# Altium schematic symbol library SEMATIK_LIB.SchLib: 632 symbols (part 20 of 21)
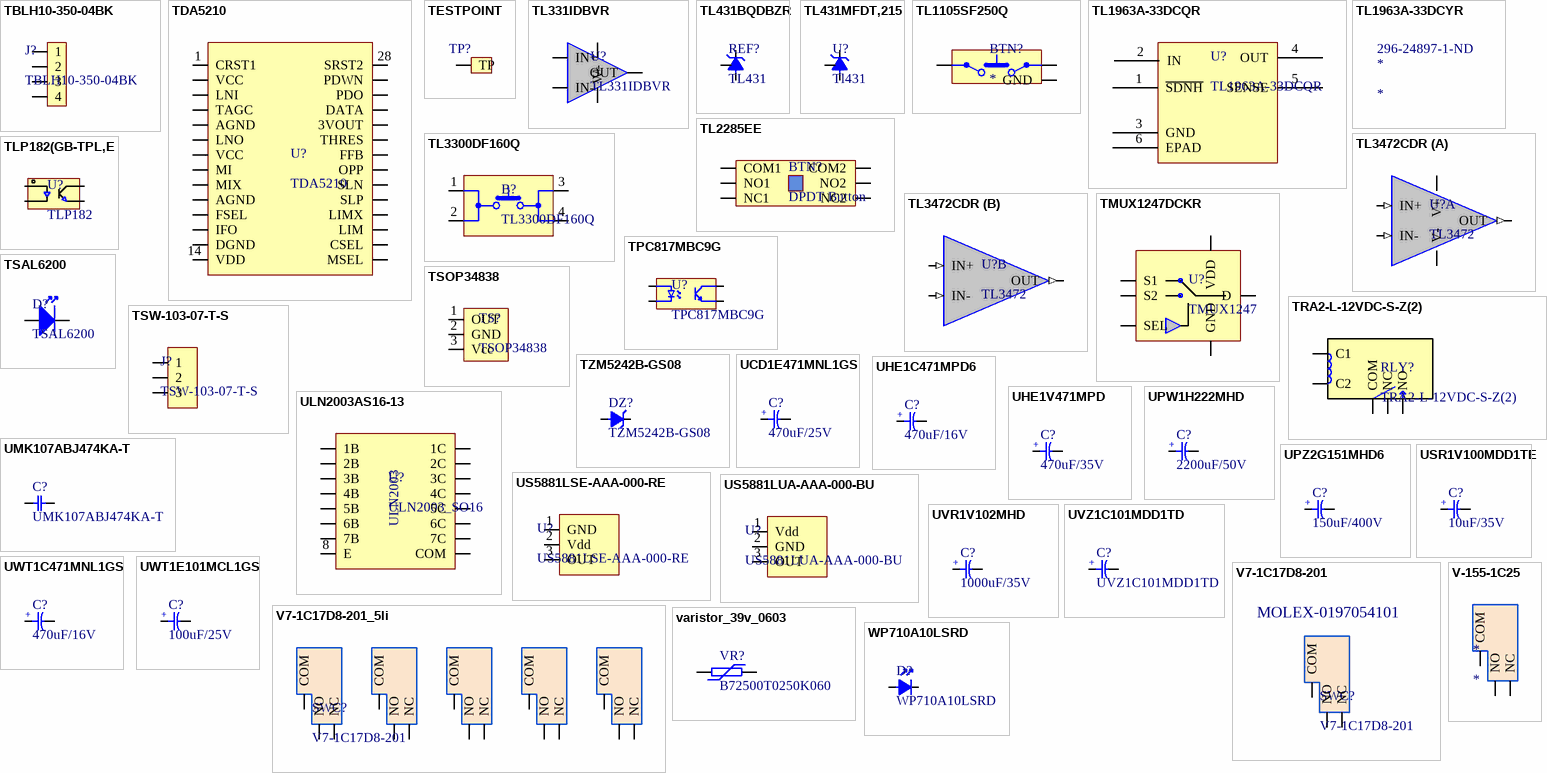
[diagram p35: symbols TBLH10-350-04BK to WP710A10LSRD]

## TL3472CDR
designator U?, comment TL3472
IC OPAMP GP 2 CIRCUIT 8SOIC; Manufacturer: Texas Instruments; Manufacturer Part Number: TL3472CDR; Min Supply Voltage: 4V; Max Supply Voltage: 36V; Min Dual Supply Voltage: 2V; Max Dual Supply Voltage: 18V; Voltage Gain: 100dB; Nominal Supply Current: 9mA; Bandwidth: 4MHz; Common Mode Rejection Ratio: 65dB; Number of Channels: 2; Slew Rate: 13V/µs; Max I/O Voltage: 10mV; Input Bias Current: 500nA; Operating Supply Current: 3.5mA; Output Current per Channel: 34mA; Amplifier Type: GENERAL PURPOSE; Dual Supply Voltage: 9V; Supplier 1: Digi-Key; RoHS: Yes; Category: Amplifiers - Op Amps, Buffer, Instrumentation; Stock 1: 8867; Pricing 1: 1=0,80000, 10=0,70700, 25=0,66360, 100=0,54170, 250=0,50320, 500=0,42824, 1000=0,34259 (USD); Case/Package: D; Number of Pins: 8; Contact Plating: Gold; Min Operating Temperature: -40°C; Max Operating Temperature: 105°C; Packaging: Tape and Reel; Operating Supply Voltage: 18V; Package Quantity: 1; Number of Circuits: 2; Gain Bandwidth Product: 4MHz; Input Offset Voltage (Vos): 10mV; Supply Current: 9mA; Unity Gain Bandwidth Product: 4MHz; Nominal Gain Bandwidth Product: 4MHz; Number of Elements: 2; Technology: BIPOLAR; Number of Amplifiers: 2; Length: 4.9mm; Width: 3.91mm; Height: 1.58mm; Radiation Hardening: No; Lead Free: Lead Free; RoHS Compliant: Yes; Reach SVHC Compliant: Yes; ComponentLink1URL: https://datasheet.ciiva.com/15129/getdatasheetpartid-48517-15129885.pdf?src-supplier=Verical; ComponentLink1Description: https://datasheet.ciiva.com/15129/getdatasheetpartid-48517-15129885.pdf?src-supplier=Verical; ComponentLink2URL: https://datasheet.ciiva.com/1796/tl3472-1796025.pdf?src-supplier=Digi-Key; ComponentLink2Description: https://datasheet.ciiva.com/1796/tl3472-1796025.pdf?src-supplier=Digi-Key; ComponentLink3URL: https://datasheet.ciiva.com/1796/tl3472-1796024.pdf?src-supplier=Digi-Key; ComponentLink3Description: https://datasheet.ciiva.com/1796/tl3472-1796024.pdf?src-supplier=Digi-Key; ComponentLink4URL: https://datasheet.ciiva.com/1796/tl3472-1796026.pdf?src-supplier=Digi-Key; ComponentLink4Description: https://datasheet.ciiva.com/1796/tl3472-1796026.pdf?src-supplier=Digi-Key; ComponentLink5URL: https://datasheet.ciiva.com/14460/slos200g-14460122.pdf?src-supplier=Avnet; ComponentLink5Description: https://datasheet.ciiva.com/14460/slos200g-14460122.pdf?src-supplier=Avnet; ComponentLink6URL: https://datasheet.ciiva.com/48711/001071219-da-01-en-ic-opamp-gp-4mhz-du-tl3472cdr-soic-8-tid-48711317.pdf?src-supplier=Conrad; ComponentLink6Description: https://datasheet.ciiva.com/48711/001071219-da-01-en-ic-opamp-gp-4mhz-du-tl3472cdr-soic-8-tid-48711317.pdf?src-supplier=Conrad
footprint SOP8
part A pins: 1 OUT (out), 2 IN- (in), 3 IN+ (in), 4 V- (power), 8 V+ (power)
part B pins: 5 IN+ (in), 6 IN- (in), 7 OUT (out)

## TLP182(GB-TPL,E
designator U?, comment TLP182
OPTOISO 3.75KV TRANS 6-SO 4 LEAD; Manufacturer: Toshiba; Manufacturer Part Number: TLP182(GB-TPL,E; Forward Voltage: 1.25V; Number of Channels: 1; Collector Emitter Voltage (VCEO): 300mV; Max Power Dissipation: 200mW; Max Output Voltage: 80V; Output Current per Channel: 50mA; Supplier 1: Digi-Key; Stock 1: 1377; Pricing 1: 1 = 0,52000, 10 = 0,32000, 100 = 0,18400, 1000 = 0,14400 (USD); RoHS: Yes; Mount: Surface Mount; Case/Package: SMD/SMT; Number of Pins: 4; Min Operating Temperature: -55°C; Max Operating Temperature: 125°C; Package Quantity: 1; Packaging: Tape and Reel; Max Collector Current: 50mA; Collector Emitter Saturation Voltage: 300mV; Max Input Current: 50mA; Radiation Hardening: No; ComponentLink1URL: https://datasheet.ciiva.com/29870/tlp182-datasheet-en-20130913-29870214.pdf?src-supplier=Digi-Key; ComponentLink1Description: https://datasheet.ciiva.com/29870/tlp182-datasheet-en-20130913-29870214.pdf?src-supplier=Digi-Key; ComponentLink2URL: https://datasheet.ciiva.com/29870/tlp182-datasheet-en-20130913-29870215.pdf?src-supplier=Digi-Key; ComponentLink2Description: https://datasheet.ciiva.com/29870/tlp182-datasheet-en-20130913-29870215.pdf?src-supplier=Digi-Key; ComponentLink3URL: https://datasheet.ciiva.com/29870/tlp182-datasheet-en-20130913-29870216.pdf?src-supplier=Digi-Key; ComponentLink3Description: https://datasheet.ciiva.com/29870/tlp182-datasheet-en-20130913-29870216.pdf?src-supplier=Digi-Key; ComponentLink4URL: https://datasheet.ciiva.com/30032/tlp182-datasheet-en-20130913-30032761.pdf?src-supplier=Avnet; ComponentLink4Description: https://datasheet.ciiva.com/30032/tlp182-datasheet-en-20130913-30032761.pdf?src-supplier=Avnet; Supplier Part Number 1: TLP182(GB-TPLECT-ND
footprint FPT2_OPTO_SMD
pins: 1 Anod, 2 Cath, 3 Emiter, 4 Collector

## TMUX1247DCKR
designator U?, comment TMUX1247
IC ANALOG SWITCH SPDT X 1 3OHM SC70-6; Manufacturer: Texas Instruments; Manufacturer Part Number: TMUX1247DCKR; Manufacturer Lifecycle Status: ACTIVE; -3db Bandwidth: 250MHz; Max Junction Temperature (Tj): 150°C; Max Supply Voltage: 5.5V; Min Supply Voltage: 1.08V; Number of Channels: 1; On-State Resistance: 3Ω; Value: 3Ω; Supplier: Mouser; Supplier Part Number: 595-TMUX1247DCKR; RoHS: Compliant; Category: Analog Switches and Multiplexers; Stock: 13808; Pricing: 1=0,77, 10=0,55, 50=0,495, 100=0,434, 1000=0,346, 10000=0,253 (USD); Ambient Temperature Range High: 125°C; Height: 1.1mm; Length: 2mm; Lifecycle Status: Production; Max Operating Temperature: 125°C; Min Operating Temperature: -40°C; Number of Circuits: 1; Pins: 6; Thickness: 900µm; Throw Configuration: SPDT; Width: 1.25mm; ComponentLink1URL: https://sigma.octopart.com:443/182282881/technical_drawing/Texas-Instruments-TMUX1247DCKR.pdf?src-supplier=Texas+Instruments; ComponentLink1Description: https://sigma.octopart.com:443/182282881/technical_drawing/Texas-Instruments-TMUX1247DCKR.pdf?src-supplier=Texas+Instruments; ComponentLink2URL: https://octopart.com:443/opatz8j6/c1?t=CI1zPWi6WpkfrlzFimJ7ZYeyIKOCc3soz4hUmGcztL1qVcM8LrLqKGjYD66ngmOdMsyHHMRlqzaI2Q0tdP3z-Dd9yuQRC0VLAlB5GdWLvDlkialq4wkzSZgAUeBnK13yrnzsDep8UYabaFY6UcVxZSp-37ty2iwYjEZMFE4LDEQUHhE1V9RSPnOXvjwilJwH4_BpbtYTgYhNMD2SkDBSe-bsxmSX1YkXF39aspAe1PwIhRcFsTWJUX9oVwHY-SE5i2Pe6q-AQEfvrgxzg-kU6rcWKSQx_ran_Ge_Phr0kZx0yzfl8_egu6xYWB1Go17mmQ5m9dIbyVdxwq4-vnw-e3ID4sTB4lT1s61bYcj716W5X04Pt5DzDnODSyqZmiJFgG259Rdl5w&src-supplier=Texas+Instruments; ComponentLink2Description: https://octopart.com:443/opatz8j6/c1?t=CI1zPWi6WpkfrlzFimJ7ZYeyIKOCc3soz4hUmGcztL1qVcM8LrLqKGjYD66ngmOdMsyHHMRlqzaI2Q0tdP3z-Dd9yuQRC0VLAlB5GdWLvDlkialq4wkzSZgAUeBnK13yrnzsDep8UYabaFY6UcVxZSp-37ty2iwYjEZMFE4LDEQUHhE1V9RSPnOXvjwilJwH4_BpbtYTgYhNMD2SkDBSe-bsxmSX1YkXF39aspAe1PwIhRcFsTWJUX9oVwHY-SE5i2Pe6q-AQEfvrgxzg-kU6rcWKSQx_ran_Ge_Phr0kZx0yzfl8_egu6xYWB1Go17mmQ5m9dIbyVdxwq4-vnw-e3ID4sTB4lT1s61bYcj716W5X04Pt5DzDnODSyqZmiJFgG259Rdl5w&src-supplier=Texas+Instruments; ComponentLink3URL: https://sigma.octopart.com:443/178868976/technical_drawing/Texas-Instruments-TMUX1247DCKR.pdf?src-supplier=Texas+Instruments; ComponentLink3Description: https://sigma.octopart.com:443/178868976/technical_drawing/Texas-Instruments-TMUX1247DCKR.pdf?src-supplier=Texas+Instruments; ComponentLink4URL: https://sigma.octopart.com:443/49249328/technical_drawing/Texas-Instruments-TMUX1247DCKR.pdf?src-supplier=Texas+Instruments; ComponentLink4Description: https://sigma.octopart.com:443/49249328/technical_drawing/Texas-Instruments-TMUX1247DCKR.pdf?src-supplier=Texas+Instruments; ComponentLink5URL: https://datasheet.octopart.com:443/TMUX1247DCKR-Texas-Instruments-datasheet-149898363.pdf?src-supplier=SHENGYU+ELECTRONICS; ComponentLink5Description: https://datasheet.octopart.com:443/TMUX1247DCKR-Texas-Instruments-datasheet-149898363.pdf?src-supplier=SHENGYU+ELECTRONICS; ComponentLink6URL: https://datasheet.octopart.com:443/TMUX1247DCKR-Texas-Instruments-datasheet-160672343.pdf?src-supplier=LCSC; ComponentLink6Description: https://datasheet.octopart.com:443/TMUX1247DCKR-Texas-Instruments-datasheet-160672343.pdf?src-supplier=LCSC; ComponentLink7URL: http://sigma.octopart.com:80/conflict_mineral_statement/Texas-Instruments-company-63.pdf?src-supplier=Compliance+Statements; ComponentLink7Description: http://sigma.octopart.com:80/conflict_mineral_statement/Texas-Instruments-company-63.pdf?src-supplier=Compliance+Statements; ComponentLink8URL: http://sigma.octopart.com:80/reach_statement/Texas-Instruments-company-64.pdf?src-supplier=Compliance+Statements; ComponentLink8Description: http://sigma.octopart.com:80/reach_statement/Texas-Instruments-company-64.pdf?src-supplier=Compliance+Statements
footprint SOT-363(SC-70)
pins: 1 S2, 2 VDD, 3 S1, 4 D, 5 GND, 6 SEL

## TPC817MBC9G
designator U?
OPTOISO 5KV TRANS DIP-4M; Manufacturer 1: Taiwan Semiconductor; Number of Channels: 1; Max Output Voltage: 80V; Output Current per Channel: 50mA; Forward Voltage: 1.2V; Collector Emitter Voltage (VCEO): 200mV; Supplier 1: Digi-Key; Manufacturer Part Number 1: TPC817MBC9G; Description 1: OPTOISO 5KV TRANS DIP-4M; Stock 1: 0; Mount: Through Hole; Case/Package: DIP; Min Operating Temperature: -40°C; Max Operating Temperature: 100°C; Packaging: Rail/Tube; Supplier Part Number 1: TPC817MBC9G-ND
footprint DIP4
footprint DIP4_NOBODY
pins: 1, 2, 3, 4

## TRA2-L-12VDC-S-Z(2)
designator RLY?
RELAY GEN PURPOSE SPDT 16A 12VDC 360Ohm Through Hole; Manufacturer 1: TE Connectivity; Manufacturer Part Number 1: 6-1393238-2; Description 1: Electromechanical Relay SPDT 16A 12VDC 360Ohm Through Hole; Max Voltage Rating (AC): 400V; Coil Current: 33.3mA; Coil Resistance: 360R; Operate Time: 8ms; Coil Power: 400mW; Coil Voltage (DC): 12V; Dropout Voltage: 1.2V; Supplier 1: Digi-Key; Stock 1: 7303; Pricing 1: 1=2.94, 10=2.754, 25=2.448, 50=2.3256, 100=2.2032, 250=2.03492 (USD); Mount: Through Hole; Case/Package: DIP; Number of Pins: 8; Weight: 10g; Contact Material: Silver; Min Operating Temperature: -40°C; Max Operating Temperature: 85°C; Contact Current Rating: 16A; Packaging: Box; Throw Configuration: SPDT; Termination: PC Pin; Voltage Rating (AC): 400V; Max Current Rating: 16A; Length: 29mm; Depth: 12.7mm; Radiation Hardening: No; Lead Free: Lead Free; ELV: Compliant; ComponentLink1URL: http://www.onlinecomponents.com/productFiles/mf-AMP/4496ddetrolleractionshowdocdociddatasheet7frt17f09107fpdf7fenglish.pdf?src-supplier=Onlinecomponents.com; ComponentLink1Description: http://www.onlinecomponents.com/productFiles/mf-AMP/4496ddetrolleractionshowdocdociddatasheet7frt17f09107fpdf7fenglish.pdf?src-supplier=Onlinecomponents.com; ComponentLink2URL: http://www.te.com/commerce/DocumentDelivery/DDEController?Action=showdoc&DocId=Data+Sheet%7FRT1%7FIJ1%7Fpdf%7FEnglish%7FENG_DS_RT1_IJ1.pdf&src-supplier=Avnet+Europe; ComponentLink2Description: http://www.te.com/commerce/DocumentDelivery/DDEController?Action=showdoc&DocId=Data+Sheet%7FRT1%7FIJ1%7Fpdf%7FEnglish%7FENG_DS_RT1_IJ1.pdf&src-supplier=Avnet+Europe; ComponentLink3URL: http://www.te.com/commerce/DocumentDelivery/DDEController?Action=showdoc&DocId=Data+Sheet%7FRT1%7F0712%7Fpdf%7FEnglish%7FENG_DS_RT1_0712.pdf&src-supplier=Avnet; ComponentLink3Description: http://www.te.com/commerce/DocumentDelivery/DDEController?Action=showdoc&DocId=Data+Sheet%7FRT1%7F0712%7Fpdf%7FEnglish%7FENG_DS_RT1_0712.pdf&src-supplier=Avnet; ComponentLink4URL: http://www.te.com/commerce/DocumentDelivery/DDEController?Action=showdoc&DocId=Data+Sheet%7FRT1%7FIJ1%7Fpdf%7FEnglish%7FENG_DS_RT1_IJ1.pdf&src-supplier=Avnet; ComponentLink4Description: http://www.te.com/commerce/DocumentDelivery/DDEController?Action=showdoc&DocId=Data+Sheet%7FRT1%7FIJ1%7Fpdf%7FEnglish%7FENG_DS_RT1_IJ1.pdf&src-supplier=Avnet; Supplier Part Number 1: PB980-ND
footprint Relay_TRA2-L-12VDC-S-2Z
pins: C1, C2, COM1 COM, NC1 NC, NO1 NO

## TSAL6200
designator D?
LED EMITTER IR 940NM 100MA RADIAL; Manufacturer: Vishay Semiconductor Opto Division; Type: Infrared (IR); Radiant Intensity (Ie) Min @ If: 40mW/sr @ 100mA; Voltage - Forward (Vf) (Typ): 1.35V; Viewing Angle: 34°; Supplier 1: Digi-Key; Manufacturer Part Number: TSAL6200; RoHS: RoHS Compliant; Category: Optoelectronics; Stock 1: 26027; Pricing 1: 1=0.66, 10=0.473, 25=0.3864, 100=0.3091, 250=0.26084, 500=0.22218, 1000=0.17388, 2500=0.15939, 5000=0.1449 (USD); Packaging: Bulk; Part Status: Active; Current - DC Forward (If) (Max): 100mA; Wavelength: 940nm; Orientation: Top View; Operating Temperature: -40°C ~ 85°C (TA); Mounting Type: Through Hole; Package / Case: Radial, 5mm Dia (T 1 3/4); ComponentLink1URL: http://www.vishay.com/docs/81010/tsal6200.pdf; ComponentLink1Description: http://www.vishay.com/docs/81010/tsal6200.pdf; Supplier Part Number 1: 751-1204-ND
footprint DIP_LED
footprint Led_sensor
pins: A Anot, K Katot

## TSOP34838
designator TS?
IC IR RCVR MOD 38KHZ DOME RADIAL; Manufacturer: Vishay Semiconductor Opto Division; Sensing Distance: 45m; B.P.F. Center Frequency: 38.0kHz; Supplier 1: Digi-Key; Manufacturer Part Number: TSOP34838; RoHS: RoHS Compliant; Category: Sensors, Transducers; Stock 1: 3314; Pricing 1: 1=1.33, 5=1.28, 10=1.04, 25=0.896, 50=0.776, 100=0.704, 500=0.592, 2160=0.528, 6480=0.48 (USD); Packaging: Tube; Part Status: Active; Orientation: Side View; Mounting Type: Through Hole; Operating Temperature: -25°C ~ 85°C (TA); ComponentLink1URL: http://www.vishay.com/docs/82489/tsop322.pdf; ComponentLink1Description: http://www.vishay.com/docs/82489/tsop322.pdf; Supplier Part Number 1: 751-1386-5-ND
footprint TSOP34838_sensor
pins: 1 OUT, 2 GND, 3 Vcc

## TSW-103-07-T-S
designator J?
CONN HEADER 3POS .100mil VERT; Manufacturer: Samtec; Max Current Rating: 7.6A; Number of Positions: 3; Max Voltage Rating (AC): 550V; Gender: Male; Connector Type: Male Pin; Pitch: 2.54mm; Supplier 1: Digi-Key; Manufacturer Part Number: TSW-103-07-T-S; Stock 1: 3551; Pricing 1: 1 = 0,22000, 10 = 0,20700, 25 = 0,17640, 50 = 0,15420, 100 = 0,14320, 250 = 0,12668, 500 = 0,12118 (USD); RoHS: Yes; Mount: Through Hole; Contact Plating: Tin; Contact Material: Bronze; Color: Black; Housing Color: Black; Housing Material: Polyester; Min Operating Temperature: -55°C; Max Operating Temperature: 105°C; Number of Rows: 1; Package Quantity: 1; Packaging: Bulk; Termination: Solder; Number of Contacts: 3; Orientation: Vertical; Length: 7.62mm; Width: 2.54mm; Contact Mating Length: 0.23inch; Depth: 2.54mm; Radiation Hardening: No; REACH SVHC: No SVHC; Lead Free: Lead Free; ComponentLink1URL: https://datasheet.ciiva.com/6890/tsw-xxx-xx-xxx-x-xx-xxx-mkt-6890268.pdf?src-supplier=Digi-Key; ComponentLink1Description: https://datasheet.ciiva.com/6890/tsw-xxx-xx-xxx-x-xx-xxx-mkt-6890268.pdf?src-supplier=Digi-Key; Supplier Part Number 1: SAM1035-03-ND
footprint HDR_MALE_1x3_100mil
pins: 1, 2, 3

## TZM5242B-GS08
designator DZ?
DIODE ZENER SINGLE 12V 5% 500mW Automotive 2-Pin Mini-MELF SOD-80 T/R; Manufacturer: Vishay; Forward Voltage: 1.1V; Lens Style: Circular,Colorless,Diffused; Viewing Angle: 18°; Impedance: 30R; Max Reverse Leakage Current: 1uA; Zener Current: 200mA; Test Current: 20mA; Number of LEDs: 1; Supplier 1: Digi-Key; Manufacturer Part Number: TZM5242B-GS08; Stock 1: 5347; Pricing 1: 1=0.22, 10=0.199, 25=0.1892, 100=0.1083, 250=0.08024, 500=0.06662, 1000=0.04542 (USD); Mount: Surface Mount; Number of Pins: 2; Color: Green; Min Operating Temperature: -65°C; Max Operating Temperature: 175°C; Max Power Dissipation: 500mW; Packaging: Tape and Reel; Package Quantity: 1; Tolerance: 5%; Zener Voltage: 12V; Power Dissipation: 500mW; Voltage Tolerance: 5%; Working Voltage: 12V; Peak Reverse Current: 1uA; Element Configuration: Single; Diameter: 1.6mm; Length: 3.7mm; Height: 1.6mm; Width: 1.6mm; Radiation Hardening: No; REACH SVHC: Unknown; Lead Free: Lead Free; ComponentLink1URL: http://www.vishay.com/docs/85609/tzm5221.pdf?src-supplier=Digi-Key; ComponentLink1Description: http://www.vishay.com/docs/85609/tzm5221.pdf?src-supplier=Digi-Key; ComponentLink2URL: http://www.farnell.com/datasheets/1347039.pdf?src-supplier=Element14; ComponentLink2Description: http://www.farnell.com/datasheets/1347039.pdf?src-supplier=Element14; ComponentLink3URL: https://www.verical.com/server-webapp/html/getDatasheet?partID=44782&src-supplier=Verical; ComponentLink3Description: https://www.verical.com/server-webapp/html/getDatasheet?partID=44782&src-supplier=Verical; ComponentLink4URL: http://www.jameco.com/Jameco/Products/ProdDS/816245.pdf?src-supplier=Jameco; ComponentLink4Description: http://www.jameco.com/Jameco/Products/ProdDS/816245.pdf?src-supplier=Jameco; ComponentLink5URL: http://www.vishay.com/docs/83010/tlhe510.pdf?src-supplier=Avnet+Europe; ComponentLink5Description: http://www.vishay.com/docs/83010/tlhe510.pdf?src-supplier=Avnet+Europe; ComponentLink6URL: https://www.alliedelec.com/m/d/fe6cb72a445eab81476a03954910f02b.pdf?src-supplier=Allied+Electronics; ComponentLink6Description: https://www.alliedelec.com/m/d/fe6cb72a445eab81476a03954910f02b.pdf?src-supplier=Allied+Electronics; Supplier Part Number 1: TZM5242B-GS08CT-ND
footprint SOD-80
pins: A Anot, K Katot

## UCD1E471MNL1GS
designator C?, comment 470uF/25V
CAP ALUM uF 470 25V 20% SMD
footprint Cap_Alu_10.3x10.3mm
pins: 1, 2
text: +

## UHE1C471MPD6
designator C?, comment 470uF/16V
CAP ALUM uF 470 16V 20% RADIAL; Manufacturer 1: Nichicon; Manufacturer Part Number 1: UHE1C471MPD6; Description 1: CAP ALUM 470UF 20% 16V RADIAL; Dielectric Material: Aluminium; Capacitance: 470uF; Ripple Current: 865mA; Impedance: 80mR; Leakage Current: 75.2uA; Life (Hours): 7000Hour; Dissipation Factor: 0.16%; ESR (Equivalent Series Resistance): 320mR; Lead Diameter: 0.6mm; Supplier 1: Digi-Key; Stock 1: 65171; Pricing 1: 1=0.47, 10=0.333, 100=0.2195, 500=0.1626, 1000=0.13821, 2500=0.13008, 5000=0.12195 (USD); Mount: Through Hole; Case/Package: Radial; Min Operating Temperature: -40°C; Max Operating Temperature: 105°C; Package Quantity: 200; Packaging: Bulk; Tolerance: 20%; Voltage Rating: 16V; Termination: Radial; Voltage: 16V; Voltage Rating (DC): 16V; Diameter: 10mm; Length: 12.5mm; Height: 12.5mm; Lead Pitch: 5mm; Height - Seated (Max): 0.492inch; Radiation Hardening: No; Lead Free: Lead Free; ComponentLink1URL: http://documents.rs-components.com/techlib://itc_doclist_GB.htm?stockno=4909765&src-supplier=RSComponents; ComponentLink1Description: http://documents.rs-components.com/techlib://itc_doclist_GB.htm?stockno=4909765&src-supplier=RSComponents; ComponentLink2URL: http://nichicon-us.com/english/products/pdfs/e-uhe.pdf?src-supplier=Digi-Key; ComponentLink2Description: http://nichicon-us.com/english/products/pdfs/e-uhe.pdf?src-supplier=Digi-Key; ComponentLink3URL: http://www.nichicon.co.jp/english/products/pdfs/e-he.pdf?src-supplier=Avnet; ComponentLink3Description: http://www.nichicon.co.jp/english/products/pdfs/e-he.pdf?src-supplier=Avnet; Supplier Part Number 1: 493-1523-ND
footprint 10x12_5mm_Cap_Dip
pins: 1, 2
text: +

## UHE1V471MPD
designator C?, comment 470uF/35V
CAP ALUM uF 470 35V 20%  RADIAL; Manufacturer: Nichicon; Manufacturer Part Number: UHE1V471MPD; Lifetime @ Temp.: 7000 Hrs @ 105°C; Polarization: Polar; Supplier 1: Digi-Key; RoHS: RoHS Compliant; Category: Capacitors; Stock 1: 27540; Pricing 1: 1=0.68, 10=0.478, 100=0.315, 500=0.23332, 1000=0.19831, 2500=0.18665, 5000=0.17498 (USD); Packaging: Bulk; Part Status: Active; Tolerance: ±20%; ESR (Equivalent Series Resistance): -; Operating Temperature: -40°C ~ 105°C; Ratings: -; Applications: General Purpose; Lead Spacing: 0.197" (5.00mm); Size / Dimension: 0.394" Dia (10.00mm); Height - Seated (Max): 0.787" (20.00mm); Surface Mount Land Size: -; Mounting Type: Through Hole; Package / Case: Radial, Can; ComponentLink1URL: http://nichicon-us.com/english/products/pdfs/e-uhe.pdf; ComponentLink1Description: http://nichicon-us.com/english/products/pdfs/e-uhe.pdf; Supplier Part Number 1: 493-1582-ND
footprint 10x20-5mm_Cap_Dip
pins: 1, 2
text: +

## ULN2003AS16-13
designator U?, comment ULN2003_SO16
IC PWR RELAY 7NPN 1:1 16SO; Manufacturer: Diodes Incorporated; Manufacturer Part Number: ULN2003AS16-13; Transistor Type: 7 NPN Darlington; Current - Collector (Ic) (Max): 500mA; Voltage - Collector Emitter Breakdown (Max): 50V; Vce Saturation (Max) @ Ib, Ic: 1.6V @ 500µA, 350mA; Current - Collector Cutoff (Max): 50µA; Supplier 1: Digi-Key; RoHS: RoHS Compliant; Category: Discrete Semiconductor Products; Stock 1: 2403; Pricing 1: 1=0.55, 10=0.467, 100=0.349, 500=0.27418, 1000=0.21187 (USD); Packaging: Cut Tape (CT); Part Status: Active; DC Current Gain (hFE) (Min) @ Ic, Vce: -; Power - Max: -; Frequency - Transition: -; Operating Temperature: -40°C ~ 105°C (TA); Package / Case: 16-SOIC (0.154", 3.90mm Width); Supplier Device Package: 16-SO; ComponentLink1URL: https://www.diodes.com/assets/Datasheets/ULN200xA.pdf; ComponentLink1Description: https://www.diodes.com/assets/Datasheets/ULN200xA.pdf; Supplier Part Number 1: ULN2003AS16-13DICT-ND
footprint SO16
pins: 1 1B, 2 2B, 3 3B, 4 4B, 5 5B, 6 6B, 7 7B, 8 E, 9 COM, 10 7C, 11 6C, 12 5C, 13 4C, 14 3C, 15 2C, 16 1C
text: ULN2003

## UMK107ABJ474KA-T
designator C?
CAP CER nF 470 50V X5R 0603; Manufacturer 1: Taiyo Yuden; Description 1: Capacitor, Mlcc, X5r, 0.47uf, 50v, 0603, Reel, Full Reel; Tolerance: 10%; Capacitance: 470nF; Supplier 1: Digi-Key; Manufacturer Part Number 1: UMK107ABJ474KA-T; Stock 1: 189201; Pricing 1: 1=0.21, 10=0.149, 100=0.0703, 500=0.04926, 1000=0.04078 (USD); Mount: Surface Mount; Case/Package: 0603; Case Code (Imperial): 0603; Case Code (Metric): 1608; Min Operating Temperature: -55°C; Max Operating Temperature: 85°C; Packaging: Tape and Reel; Package Quantity: 1; Voltage Rating: 50V; Voltage Rating (DC): 50V; Dielectric: X5R; Termination: SMD/SMT; Voltage: 50V; Length: 1.6mm; Height: 0.8mm; Width: 0.8mm; Thickness: 0.037inch; Depth: 0.8mm; Radiation Hardening: No; Lead Free: Lead Free; ComponentLink1URL: http://ds.yuden.co.jp/TYCOMPAS/ut/detail.do?productNo=UMK107ABJ474KA-T&fileName=UMK107ABJ474KA-T_SS&mode=specSheetDownload&src-supplier=Digi-Key; ComponentLink1Description: http://ds.yuden.co.jp/TYCOMPAS/ut/detail.do?productNo=UMK107ABJ474KA-T&fileName=UMK107ABJ474KA-T_SS&mode=specSheetDownload&src-supplier=Digi-Key; ComponentLink2URL: http://www.onlinecomponents.com/productFiles/mf-TAI/30umk107abj474ka-t.pdf?src-supplier=Onlinecomponents.com; ComponentLink2Description: http://www.onlinecomponents.com/productFiles/mf-TAI/30umk107abj474ka-t.pdf?src-supplier=Onlinecomponents.com; ComponentLink3URL: http://www.yuden.co.jp/or/product/category/capacitor/UMK107ABJ474KA-T.pdf?src-supplier=Avnet; ComponentLink3Description: http://www.yuden.co.jp/or/product/category/capacitor/UMK107ABJ474KA-T.pdf?src-supplier=Avnet; Supplier Part Number 1: 587-3171-1-ND
footprint CAP_CER_0603
pins: 1, 2

## UPW1H222MHD
designator C?, comment 2200uF/50V
CAP ALUM uF 2200 50V 20% RADIAL; Manufacturer 1: Nichicon; Manufacturer Part Number 1: UPW1H222MHD; Dielectric Material: Aluminium; Life (Hours): 8000Hour; Capacitance: 2.2mF; Ripple Current: 3.1A; Impedance: 23mR; Leakage Current: 3.3mA; Dissipation Factor: 0.1%; ESR (Equivalent Series Resistance): 46mR; Lead Diameter: 0.8mm; Supplier 1: Digi-Key; Stock 1: 17885; Pricing 1: 1=2,41000, 10=1,95300, 100=1,49160, 500=1,13646, 1000=0,99441, 2500=0,96600 (USD); RoHS: Yes; Mount: Through Hole,PCB; Case/Package: Radial; Min Operating Temperature: -55°C; Max Operating Temperature: 105°C; Tolerance: 20%; Packaging: Bulk; Voltage Rating: 50V; Voltage Rating (DC): 50V; Termination: Radial; Voltage: 50V; Package Quantity: 50; Diameter: 18mm; Length: 35.5mm; Height: 35.5mm; Height - Seated (Max): 1.398inch; Lead Pitch: 7.5mm; Radiation Hardening: No; Lead Free: Lead Free; ComponentLink1URL: https://datasheet.ciiva.com/11780/0900766b80ec9186-11780681.pdf?src-supplier=RSComponents; ComponentLink1Description: https://datasheet.ciiva.com/11780/0900766b80ec9186-11780681.pdf?src-supplier=RSComponents; ComponentLink2URL: https://datasheet.ciiva.com/100/e-pw-100120.pdf?src-supplier=Digi-Key; ComponentLink2Description: https://datasheet.ciiva.com/100/e-pw-100120.pdf?src-supplier=Digi-Key; ComponentLink3URL: https://datasheet.ciiva.com/14587/70187276-14587082.pdf?src-supplier=Allied+Electronics; ComponentLink3Description: https://datasheet.ciiva.com/14587/70187276-14587082.pdf?src-supplier=Allied+Electronics; ComponentLink4URL: https://datasheet.ciiva.com/17355/e-pw-17355116.pdf?src-supplier=Avnet+Europe; ComponentLink4Description: https://datasheet.ciiva.com/17355/e-pw-17355116.pdf?src-supplier=Avnet+Europe; Supplier Part Number 1: 493-1923-ND
footprint Cap_Alu_(7.5mm)_(18x35.5)
pins: 1, 2
text: +

## UPZ2G151MHD6
designator C?, comment 150uF/400V
CAP ALUM uF 150 400V 20% RADIAL; Manufacturer 1: Nichicon; Manufacturer Part Number 1: UPZ2G151MHD6; Capacitance: 150uF; Ripple Current: 770mA; Leakage Current: 2.5mA; Life (Hours): 2000Hour; Dissipation Factor: 0.15%; Supplier 1: Digi-Key; Stock 1: 0; Pricing 1: 1=4,81000, 10=4,32900, 50=3,75140, 100=3,27050, 500=2,69336, 1000=2,50935 (USD); RoHS: Yes; Mount: Through Hole,PCB; Case/Package: Radial; Min Operating Temperature: -25°C; Max Operating Temperature: 105°C; Tolerance: 20%; Package Quantity: 50; Packaging: Bulk; Voltage Rating: 400V; Voltage Rating (DC): 400V; Termination: Radial; Series: PZ; Length: 35.5mm; Lead Pitch: 0.295inch; Height - Seated (Max): 1.476inch; RoHS Compliant: Yes; ComponentLink1URL: http://www.mouser.com/ds/2/293/e-upz-876318.pdf?src-supplier=Mouser; ComponentLink1Description: http://www.mouser.com/ds/2/293/e-upz-876318.pdf?src-supplier=Mouser; ComponentLink2URL: http://www.alliedelec.com/m/d/fa961f4ede654f6bc0796f3d70651413.pdf?src-supplier=Allied+Electronics; ComponentLink2Description: http://www.alliedelec.com/m/d/fa961f4ede654f6bc0796f3d70651413.pdf?src-supplier=Allied+Electronics; ComponentLink3URL: http://nichicon-us.com/english/products/pdfs/e-upz.pdf?src-supplier=Digi-Key; ComponentLink3Description: http://nichicon-us.com/english/products/pdfs/e-upz.pdf?src-supplier=Digi-Key; Supplier Part Number 1: 493-11307-ND
footprint Cap_Alu_(7.5mm)_(18x35.5)
pins: 1, 2
text: +

## US5881LSE-AAA-000-RE
designator U?
MAGNETIC SWITCH UNIPOLAR SOT23; Manufacturer: Melexis; Max Supply Current: 5mA; Max Output Current: 50mA; Sensing Method: Hall Effect; Polarity: South Pole; Operating Supply Voltage: 24V; Nominal Supply Current: 2.5mA; Supplier 1: Digi-Key; Manufacturer Part Number: US5881LSE-AAA-000-RE; Stock 1: 3000; Pricing 1: 1 = 0,99000, 10 = 0,86200, 25 = 0,76400, 100 = 0,66530, 500 = 0,49280, 1000 = 0,39424 (USD); RoHS: Yes; Case/Package: TO-236-3; Min Operating Temperature: -40°C; Max Operating Temperature: 150°C; Type: Unipolar Switch; Package Quantity: 3000; Packaging: Tape and Reel; Output Current: 50mA; Lead Free: Lead Free; ComponentLink1URL: https://www.melexis.com/-/media/files/documents/datasheets/us5881-datasheet-melexis.pdf?src-supplier=Digi-Key; ComponentLink1Description: https://www.melexis.com/-/media/files/documents/datasheets/us5881-datasheet-melexis.pdf?src-supplier=Digi-Key; ComponentLink2URL: http://www.melexis.com/Asset/US5881-DataSheet-DownloadLink-4824.aspx?src-supplier=Future+Electronics; ComponentLink2Description: http://www.melexis.com/Asset/US5881-DataSheet-DownloadLink-4824.aspx?src-supplier=Future+Electronics; Supplier Part Number 1: US5881LSE-AAA-000-RECT-ND
footprint SOT-23
pins: 1 GND, 2 Vdd, 3 OUT

## US5881LUA-AAA-000-BU
designator U?
MAGNETIC SWITCH UNIPOLAR TO92UA; Manufacturer: Melexis; Output Current: 50mA; Operating Supply Voltage: 24V; Nominal Supply Current: 2.5mA; Max Supply Current: 5mA; Polarity: South Pole; Sensing Method: Hall Effect; Supplier 1: Digi-Key; Manufacturer Part Number: US5881LUA-AAA-000-BU; Stock 1: 2342; Pricing 1: 1 = 0,93000, 10 = 0,81600, 25 = 0,72240, 100 = 0,62910, 500 = 0,46600, 1000 = 0,37280, 5000 = 0,31455 (USD); RoHS: Yes; Case/Package: TO-226-3; Min Operating Temperature: -40°C; Max Operating Temperature: 150°C; Package Quantity: 1000; Packaging: Bulk; Max Output Current: 50mA; Type: Unipolar Switch; Lead Free: Lead Free; ComponentLink1URL: https://datasheet.ciiva.com/16387/us5881-rev008-16387420.pdf?src-supplier=Future+Electronics; ComponentLink1Description: https://datasheet.ciiva.com/16387/us5881-rev008-16387420.pdf?src-supplier=Future+Electronics; Supplier Part Number 1: US5881LUA-AAA-000-BU-ND
footprint TO92_ozeltasarım
pins: 1 Vdd, 2 GND, 3 OUT

## USR1V100MDD1TE
designator C?, comment 10uF/35V
CAP ALUM uF 10 35V 20% RADIAL; Manufacturer: Nichicon; Manufacturer Part Number: USR1V100MDD1TE; Capacitance: 10uF; Polarity: Polar; Ripple Current: 31mA; Life (Hours): 2000Hour; Supplier 1: Digi-Key; Stock 1: 4749; Pricing 1: 1 = 0,25000, 10 = 0,17200, 50 = 0,10300, 100 = 0,08700, 500 = 0,05954, 1000 = 0,05267 (USD); Mount: Through Hole; Case/Package: Radial; Min Operating Temperature: -40°C; Max Operating Temperature: 85°C; Package Quantity: 4000; Packaging: Tape and Reel; Voltage Rating: 35V; Tolerance: 20%; Lead Pitch: 0.059inch; Height - Seated (Max): 0.315inch; ComponentLink1URL: http://nichicon-us.com/english/products/pdfs/e-usa_usr.pdf?src-supplier=Digi-Key; ComponentLink1Description: http://nichicon-us.com/english/products/pdfs/e-usa_usr.pdf?src-supplier=Digi-Key; Supplier Part Number 1: 493-17431-1-ND
footprint Cap_Alu_1.5x4x8mm
pins: 1, 2
text: +

## UVR1V102MHD
designator C?, comment 1000uF/35V
CAP ALUM uF 1000 35V 20%  RADIAL; Manufacturer: Nichicon; Manufacturer Part Number: UVR1V102MHD; Lifetime @ Temp.: 2000 Hrs @ 85°C; Polarization: Polar; Supplier 1: Digi-Key; RoHS: RoHS Compliant; Category: Capacitors; Stock 1: 18636; Pricing 1: 1=0.67, 10=0.472, 100=0.3108, 500=0.2302, 1000=0.19567, 2500=0.18416, 5000=0.17265 (USD); Packaging: Bulk; Part Status: Active; Tolerance: ±20%; ESR (Equivalent Series Resistance): -; Operating Temperature: -40°C ~ 85°C; Ratings: -; Applications: General Purpose; Lead Spacing: 0.197" (5.00mm); Size / Dimension: 0.492" Dia (12.50mm); Height - Seated (Max): 0.866" (22.00mm); Surface Mount Land Size: -; Mounting Type: Through Hole; Package / Case: Radial, Can; ComponentLink1URL: http://nichicon-us.com/english/products/pdfs/e-uvr.pdf; ComponentLink1Description: http://nichicon-us.com/english/products/pdfs/e-uvr.pdf; Supplier Part Number 1: 493-1085-ND
footprint 12.5x20-5mm_Cap_Dip
pins: 1, 2
text: +

## UVZ1C101MDD1TD
designator C?
CAP ALUM uF 100 16V 20% RADIAL (5x12.5_2.5mm); Manufacturer 1: Nichicon; Description 1: NICHICON         UVZ1C101MDD1TD             ALUMINUM ELECTROLYTIC CAPACITOR, 100UF, 16V, 20%, RADIAL; Dielectric Material: Aluminium; Capacitance: 100uF; Ripple Current: 115mA; Life (Hours): 1000Hour; Lead/Base Style: Straight; Supplier 1: Digi-Key; Manufacturer Part Number 1: UVZ1C101MDD1TD; Stock 1: 5977; Pricing 1: 1=0.27, 10=0.186, 100=0.1056, 500=0.07452, 1000=0.06521 (USD); Mount: Through Hole; Case/Package: Radial; Number of Pins: 2; Min Operating Temperature: -55°C; Max Operating Temperature: 105°C; Tolerance: 20%; Termination: Radial; Voltage Rating: 16V; Packaging: Tape and Reel; Package Quantity: 2000; Voltage Rating (DC): 16V; Diameter: 5mm; Length: 16mm; Height: 11mm; Lead Pitch: 2mm; Height - Seated (Max): 0.492inch; Radiation Hardening: No; REACH SVHC: No SVHC; Lead Free: Lead Free; ComponentLink1URL: http://www.nichicon.co.jp/english/products/pdfs/e-vz.pdf?src-supplier=Avnet; ComponentLink1Description: http://www.nichicon.co.jp/english/products/pdfs/e-vz.pdf?src-supplier=Avnet; ComponentLink2URL: http://products.nichicon.co.jp/en/pdf/XJA043/e-vz.pdf?src-supplier=Future+Electronics; ComponentLink2Description: http://products.nichicon.co.jp/en/pdf/XJA043/e-vz.pdf?src-supplier=Future+Electronics; ComponentLink3URL: http://www.nichicon.co.jp/english/products/pdfs/e-vz.pdf?src-supplier=Avnet+Europe; ComponentLink3Description: http://www.nichicon.co.jp/english/products/pdfs/e-vz.pdf?src-supplier=Avnet+Europe; Supplier Part Number 1: 493-13439-1-ND
footprint 5x12.5_2.5mm_Cap_Dip
pins: 1, 2
text: +

## UWT1C471MNL1GS
designator C?, comment 470uF/16V
CAP ALUM uF 470 16V 20% SMD; Manufacturer: Nichicon; Manufacturer Part Number: UWT1C471MNL1GS; Dielectric Material: Aluminium; Capacitance: 470uF; Ripple Current: 230mA; Leakage Current: 3uA; Life (Hours): 1000Hour; Dissipation Factor: 0.2%; Supplier 1: Digi-Key; Stock 1: 94342; Pricing 1: 1=0.53, 10=0.377, 100=0.2484 (USD); Mount: Surface Mount; Case/Package: Radial; Number of Pins: 2; Min Operating Temperature: -55°C; Max Operating Temperature: 105°C; Tolerance: 20%; Voltage Rating: 16V; Package Quantity: 1; Packaging: Tape and Reel; Voltage Rating (DC): 16V; Termination: SMD/SMT; Ripple Current (AC): 230mA; Voltage: 16V; Diameter: 8mm; Length: 10mm; Height: 10mm; Height - Seated (Max): 0.394inch; Radiation Hardening: No; REACH SVHC: No SVHC; Lead Free: Lead Free; ComponentLink1URL: http://nichicon-us.com/english/products/pdfs/e-wt.pdf?src-supplier=Element14; ComponentLink1Description: http://nichicon-us.com/english/products/pdfs/e-wt.pdf?src-supplier=Element14; ComponentLink2URL: http://www.nichicon.co.jp/english/products/pdfs/e-ch_ref.pdf?src-supplier=Digi-Key; ComponentLink2Description: http://www.nichicon.co.jp/english/products/pdfs/e-ch_ref.pdf?src-supplier=Digi-Key; ComponentLink3URL: http://products.nichicon.co.jp/en/pdf/XJA043/e-wt.pdf?src-supplier=Future+Electronics; ComponentLink3Description: http://products.nichicon.co.jp/en/pdf/XJA043/e-wt.pdf?src-supplier=Future+Electronics; ComponentLink4URL: http://uk.rs-online.com/webdocs/0fa3/0900766b80fa3a91.pdf?src-supplier=RSComponents; ComponentLink4Description: http://uk.rs-online.com/webdocs/0fa3/0900766b80fa3a91.pdf?src-supplier=RSComponents; Supplier Part Number 1: 493-2181-6-ND
footprint Cap_8x10_alu_elect_smd
pins: 1, 2
text: +

## UWT1E101MCL1GS
designator C?, comment 100uF/25V
CAP ALUM uF 100 25V 20% SMD; Manufacturer: Nichicon; Manufacturer Part Number: UWT1E101MCL1GS; Dielectric Material: Aluminium; Capacitance: 100uF; Ripple Current: 91mA; Leakage Current: 25uA; Life (Hours): 1000Hour; Supplier 1: Digi-Key; Stock 1: 30955; Pricing 1: 1=0.44, 10=0.305, 100=0.183 (USD); Mount: Surface Mount; Case/Package: Radial; Number of Pins: 2; Contact Plating: Tin; Min Operating Temperature: -55°C; Max Operating Temperature: 105°C; Tolerance: 20%; Package Quantity: 900; Voltage Rating: 25V; Packaging: Tape and Reel; Ripple Current (AC): 91mA; Voltage Rating (DC): 25V; Termination: SMD/SMT; Voltage: 25V; Diameter: 6.3mm; Length: 7.7mm; Height: 7.7mm; Height - Seated (Max): 0.303inch; Radiation Hardening: No; REACH SVHC: No SVHC; Lead Free: Lead Free; ComponentLink1URL: http://www.nichicon.co.jp/english/products/pdfs/e-ch_ref.pdf?src-supplier=Digi-Key; ComponentLink1Description: http://www.nichicon.co.jp/english/products/pdfs/e-ch_ref.pdf?src-supplier=Digi-Key; ComponentLink2URL: http://uk.rs-online.com/webdocs/0fa3/0900766b80fa3a91.pdf?src-supplier=RSComponents; ComponentLink2Description: http://uk.rs-online.com/webdocs/0fa3/0900766b80fa3a91.pdf?src-supplier=RSComponents; ComponentLink3URL: http://www.farnell.com/datasheets/1910938.pdf?src-supplier=Element14; ComponentLink3Description: http://www.farnell.com/datasheets/1910938.pdf?src-supplier=Element14; ComponentLink4URL: http://products.nichicon.co.jp/en/pdf/XJA043/e-wt.pdf?src-supplier=Future+Electronics; ComponentLink4Description: http://products.nichicon.co.jp/en/pdf/XJA043/e-wt.pdf?src-supplier=Future+Electronics; Supplier Part Number 1: 493-2190-6-ND
footprint Cap_6.3x7.7_alu_elect_smd
pins: 1, 2
text: +

## V7-1C17D8-201
designator SWC?
SWITCH SNAP ACTION SPDT 15A 125V; Manufacturer 1: Honeywell Sensing & Control; Manufacturer: Omron; Manufacturer Part Number: V-155-1C25; Mechanical Life: 10000000Cycles; Contact Current Rating: 600mA; Operating Force: 172N; Voltage Rating (AC): 277V; Number of Poles: 1; Max Voltage Rating (DC): 250V; Electrical Life: 100000Cycles; Number of Positions: 2; Pretravel: 119mm; Operating Position: 0.03inch; Sealable: No (Without); Switch Function: On-Mom; Actuator Length: 206mm; Approvals: UL,CSA; Differential Travel: 0.025inch; Ratings: IP40; Supplier 1: Digi-Key; Manufacturer Part Number 1: V7-1C17D8-201; Stock 1: 1974; Pricing 1: 1=4.56, 10=3.121, 25=2.8076, 50=2.628, 100=2.4822, 250=2.3256, 500=2.22528, 1000=2.13864, 5000=1.96536 (USD); Mount: Chassis Mount,Through Hole,Screw; Case/Package: 201; Weight: 8g; Contact Material: Silver; Housing Material: Polyester; Min Operating Temperature: -40°C; Max Operating Temperature: 82°C; Current Rating: 15A; Package Quantity: 100; Voltage Rating (DC): 125V; Max Voltage Rating (AC): 277V; Max Current Rating: 15A; Throw Configuration: SPDT; Packaging: Bulk; Termination: Quick Connect; Orientation: Straight; Length: 28.8mm; Depth: 10.2mm; REACH SVHC: Unknown; Lead Free: Lead Free; ComponentLink1URL: http://sensing.honeywell.com/index.php/ci_id/50105/la_id/1/document/1/re_id/0?src-supplier=Digi-Key; ComponentLink1Description: http://sensing.honeywell.com/index.php/ci_id/50105/la_id/1/document/1/re_id/0?src-supplier=Digi-Key; ComponentLink2URL: http://www.onlinecomponents.com/productFiles/mf-MR/v7-1c17d8-201.pdf?src-supplier=Onlinecomponents.com; ComponentLink2Description: http://www.onlinecomponents.com/productFiles/mf-MR/v7-1c17d8-201.pdf?src-supplier=Onlinecomponents.com; ComponentLink3URL: http://www.farnell.com/datasheets/1564023.pdf?src-supplier=Farnell; ComponentLink3Description: http://www.farnell.com/datasheets/1564023.pdf?src-supplier=Farnell; Supplier Part Number 1: 480-2389-ND; Supplier 2: Digi-Key; Stock 2: 182; Pricing 2: 1=4.14, 10=3.656, 25=3.4124, 50=3.25, 100=2.7626, 250=2.5188, 500=2.3563, 1000=2.27506 (USD); Overtravel: 0.03inch; ComponentLink4URL: http://www.onlinecomponents.com/productFiles/mf-OM/en-v.pdf?src-supplier=Onlinecomponents.com; ComponentLink4Description: http://www.onlinecomponents.com/productFiles/mf-OM/en-v.pdf?src-supplier=Onlinecomponents.com; ComponentLink5URL: http://www.mouser.com/ds/2/307/en-v-952614.pdf?src-supplier=Mouser; ComponentLink5Description: http://www.mouser.com/ds/2/307/en-v-952614.pdf?src-supplier=Mouser; Supplier 3: Digi-Key; Stock 3: 182; Pricing 3: 1=4.14, 10=3.656, 25=3.4124, 50=3.25, 100=2.7626, 250=2.5188, 500=2.3563, 1000=2.27506 (USD)
footprint Limit_switch
footprint Limit_switch_DOULE
footprint Limit_switch_LİTTLE
footprint Limit_switch_quick_connect
footprint Limit_switch_Biggreen
pins: 1 COM, 2 NO, 3 NC
text: MOLEX-0197054101

## V7-1C17D8-201_5li
designator SWC?, comment V7-1C17D8-201
SWITCH SNAP ACTION SPDT 15A 125V; Manufacturer 1: Honeywell Sensing & Control; Manufacturer: Omron; Manufacturer Part Number: V-155-1C25; Mechanical Life: 10000000Cycles; Contact Current Rating: 600mA; Operating Force: 172N; Voltage Rating (AC): 277V; Number of Poles: 1; Max Voltage Rating (DC): 250V; Electrical Life: 100000Cycles; Number of Positions: 2; Pretravel: 119mm; Operating Position: 0.03inch; Sealable: No (Without); Switch Function: On-Mom; Actuator Length: 206mm; Approvals: UL,CSA; Differential Travel: 0.025inch; Ratings: IP40; Supplier 1: Digi-Key; Manufacturer Part Number 1: V7-1C17D8-201; Stock 1: 1974; Pricing 1: 1=4.56, 10=3.121, 25=2.8076, 50=2.628, 100=2.4822, 250=2.3256, 500=2.22528, 1000=2.13864, 5000=1.96536 (USD); Mount: Chassis Mount,Through Hole,Screw; Case/Package: 201; Weight: 8g; Contact Material: Silver; Housing Material: Polyester; Min Operating Temperature: -40°C; Max Operating Temperature: 82°C; Current Rating: 15A; Package Quantity: 100; Voltage Rating (DC): 125V; Max Voltage Rating (AC): 277V; Max Current Rating: 15A; Throw Configuration: SPDT; Packaging: Bulk; Termination: Quick Connect; Orientation: Straight; Length: 28.8mm; Depth: 10.2mm; REACH SVHC: Unknown; Lead Free: Lead Free; ComponentLink1URL: http://sensing.honeywell.com/index.php/ci_id/50105/la_id/1/document/1/re_id/0?src-supplier=Digi-Key; ComponentLink1Description: http://sensing.honeywell.com/index.php/ci_id/50105/la_id/1/document/1/re_id/0?src-supplier=Digi-Key; ComponentLink2URL: http://www.onlinecomponents.com/productFiles/mf-MR/v7-1c17d8-201.pdf?src-supplier=Onlinecomponents.com; ComponentLink2Description: http://www.onlinecomponents.com/productFiles/mf-MR/v7-1c17d8-201.pdf?src-supplier=Onlinecomponents.com; ComponentLink3URL: http://www.farnell.com/datasheets/1564023.pdf?src-supplier=Farnell; ComponentLink3Description: http://www.farnell.com/datasheets/1564023.pdf?src-supplier=Farnell; Supplier Part Number 1: 480-2389-ND; Supplier 2: Digi-Key; Stock 2: 182; Pricing 2: 1=4.14, 10=3.656, 25=3.4124, 50=3.25, 100=2.7626, 250=2.5188, 500=2.3563, 1000=2.27506 (USD); Overtravel: 0.03inch; ComponentLink4URL: http://www.onlinecomponents.com/productFiles/mf-OM/en-v.pdf?src-supplier=Onlinecomponents.com; ComponentLink4Description: http://www.onlinecomponents.com/productFiles/mf-OM/en-v.pdf?src-supplier=Onlinecomponents.com; ComponentLink5URL: http://www.mouser.com/ds/2/307/en-v-952614.pdf?src-supplier=Mouser; ComponentLink5Description: http://www.mouser.com/ds/2/307/en-v-952614.pdf?src-supplier=Mouser; Supplier 3: Digi-Key; Stock 3: 182; Pricing 3: 1=4.14, 10=3.656, 25=3.4124, 50=3.25, 100=2.7626, 250=2.5188, 500=2.3563, 1000=2.27506 (USD)
footprint Limit_switch
footprint Limit_switch_DOULE
footprint Limit_switch_LİTTLE
footprint Limit_switch_quick_connect
footprint Limit_switch_Biggreen
footprint Limit_switch_Biggreen&Little
pins: 1 COM, 2 NO, 3 NC, 4 COM, 5 NO, 6 NC, 7 COM, 8 NO, 9 NC, 10 COM, 11 NO, 12 NC, 13 COM, 14 NO, 15 NC

## V-155-1C25
designator *
SPDT-NO/NC Short Roller Lever Microswitch, 15 A @ 250 V ac; Manufacturer: Omron; Manufacturer Part Number: V-155-1C25; Mechanical Life: 50000000Cycles; Current Rating: 10A; Voltage Rating (AC): 250V; Voltage Rating (DC): 30V; Throw Configuration: SPDT; Operating Force: 2.35N; Contact Current Rating: 15A; Electrical Life: 100000Cycles; Pretravel: 0.063inch; Differential Travel: 0.025inch; Overtravel: 0.03inch; Operating Position: 0.815inch; Switch Function: On-Mom; Ratings: IP40; Supplier 1: Digi-Key; Stock 1: 182; Pricing 1: 1=4.14, 10=3.656, 25=3.4124, 50=3.25, 100=2.7626, 250=2.5188, 500=2.3563, 1000=2.27506 (USD); Mount: Chassis Mount,Panel,Screw; Contact Material: Silver; Min Operating Temperature: -25°C; Max Operating Temperature: 80°C; Packaging: Bulk; Max Voltage Rating (AC): 250V; Max Voltage Rating (DC): 250V; Package Quantity: 100; Termination: Quick Connect; Orientation: Straight; ComponentLink1URL: http://www.onlinecomponents.com/productFiles/mf-OM/en-v.pdf?src-supplier=Onlinecomponents.com; ComponentLink1Description: http://www.onlinecomponents.com/productFiles/mf-OM/en-v.pdf?src-supplier=Onlinecomponents.com; ComponentLink2URL: http://www.mouser.com/ds/2/307/en-v-952614.pdf?src-supplier=Mouser; ComponentLink2Description: http://www.mouser.com/ds/2/307/en-v-952614.pdf?src-supplier=Mouser; Supplier Part Number 1: SW1485-ND
pins: 1 COM, 2 NO, 3 NC

## varistor_39v_0603
designator VR?, comment B72500T0250K060
VARISTOR 39V 30A 0603; Manufacturer: EPCOS (TDK); Energy: 0.30J; Supplier 1: Digi-Key; Manufacturer Part Number: B72500T0250K060; RoHS: RoHS Compliant; Category: Circuit Protection; Stock 1: 3937; Pricing 1: 1=0.48, 10=0.342, 25=0.2804, 100=0.2244, 250=0.16316, 500=0.13258, 1000=0.10198 (USD); Packaging: Cut Tape (CT); Part Status: Active; Operating Temperature: -55°C ~ 125°C (TA); Mounting Type: Surface Mount, MLCV; Package / Case: 0603 (1608 Metric); ComponentLink1URL: https://en.tdk.eu/inf/75/db/CTVS_14/Standard_series.pdf; ComponentLink1Description: https://en.tdk.eu/inf/75/db/CTVS_14/Standard_series.pdf; Supplier Part Number 1: 495-2594-1-ND
footprint VAR_0603
pins: 1, 2

## WP710A10LSRD
designator D?
LED RED CLEAR 3mm T-1 T/H; Manufacturer 1: Kingbright; Description 1: LED RED DIFFUSED T-1 T/H; Lens Style: Diffused,Tinted,Dome,Round; Forward Voltage: 1.65V; Viewing Angle: 40°; Forward Current: 2mA; Luminous Intensity: 25mcd; Dominant Wavelength: 640nm; Number of LEDs: 1; Supplier 1: Digi-Key; Manufacturer Part Number 1: WP710A10LSRD; Stock 1: 15444; Pricing 1: 1=0.5, 10=0.36, 100=0.16, 500=0.112, 1000=0.092, 2500=0.08, 5000=0.072, 10000=0.064, 25000=0.06 (USD); Mount: Through Hole; Case/Package: Radial; Number of Pins: 3; Color: Red; Lens Color: Red; Min Operating Temperature: -40°C; Max Operating Temperature: 85°C; Package Quantity: 1000; Packaging: Bulk; Illumination Color: Red; Test Current: 2mA; Height: 4.6mm; Lead Free: Lead Free; ComponentLink1URL: http://www.kingbrightusa.com/images/catalog/SPEC/WP710A10LSRD.pdf?src-supplier=Future+Electronics; ComponentLink1Description: http://www.kingbrightusa.com/images/catalog/SPEC/WP710A10LSRD.pdf?src-supplier=Future+Electronics; ComponentLink2URL: http://www.kingbrightusa.com/images/catalog/SPEC/WP710A10LSRD.pdf?src-supplier=Digi-Key; ComponentLink2Description: http://www.kingbrightusa.com/images/catalog/SPEC/WP710A10LSRD.pdf?src-supplier=Digi-Key; ComponentLink3URL: http://www.mouser.com/ds/2/216/WP710A10LSRD-48548.pdf?src-supplier=Mouser; ComponentLink3Description: http://www.mouser.com/ds/2/216/WP710A10LSRD-48548.pdf?src-supplier=Mouser; Supplier Part Number 1: 754-1590-ND
footprint Led_3mm_RED
pins: 1 Katot, 2 Anot

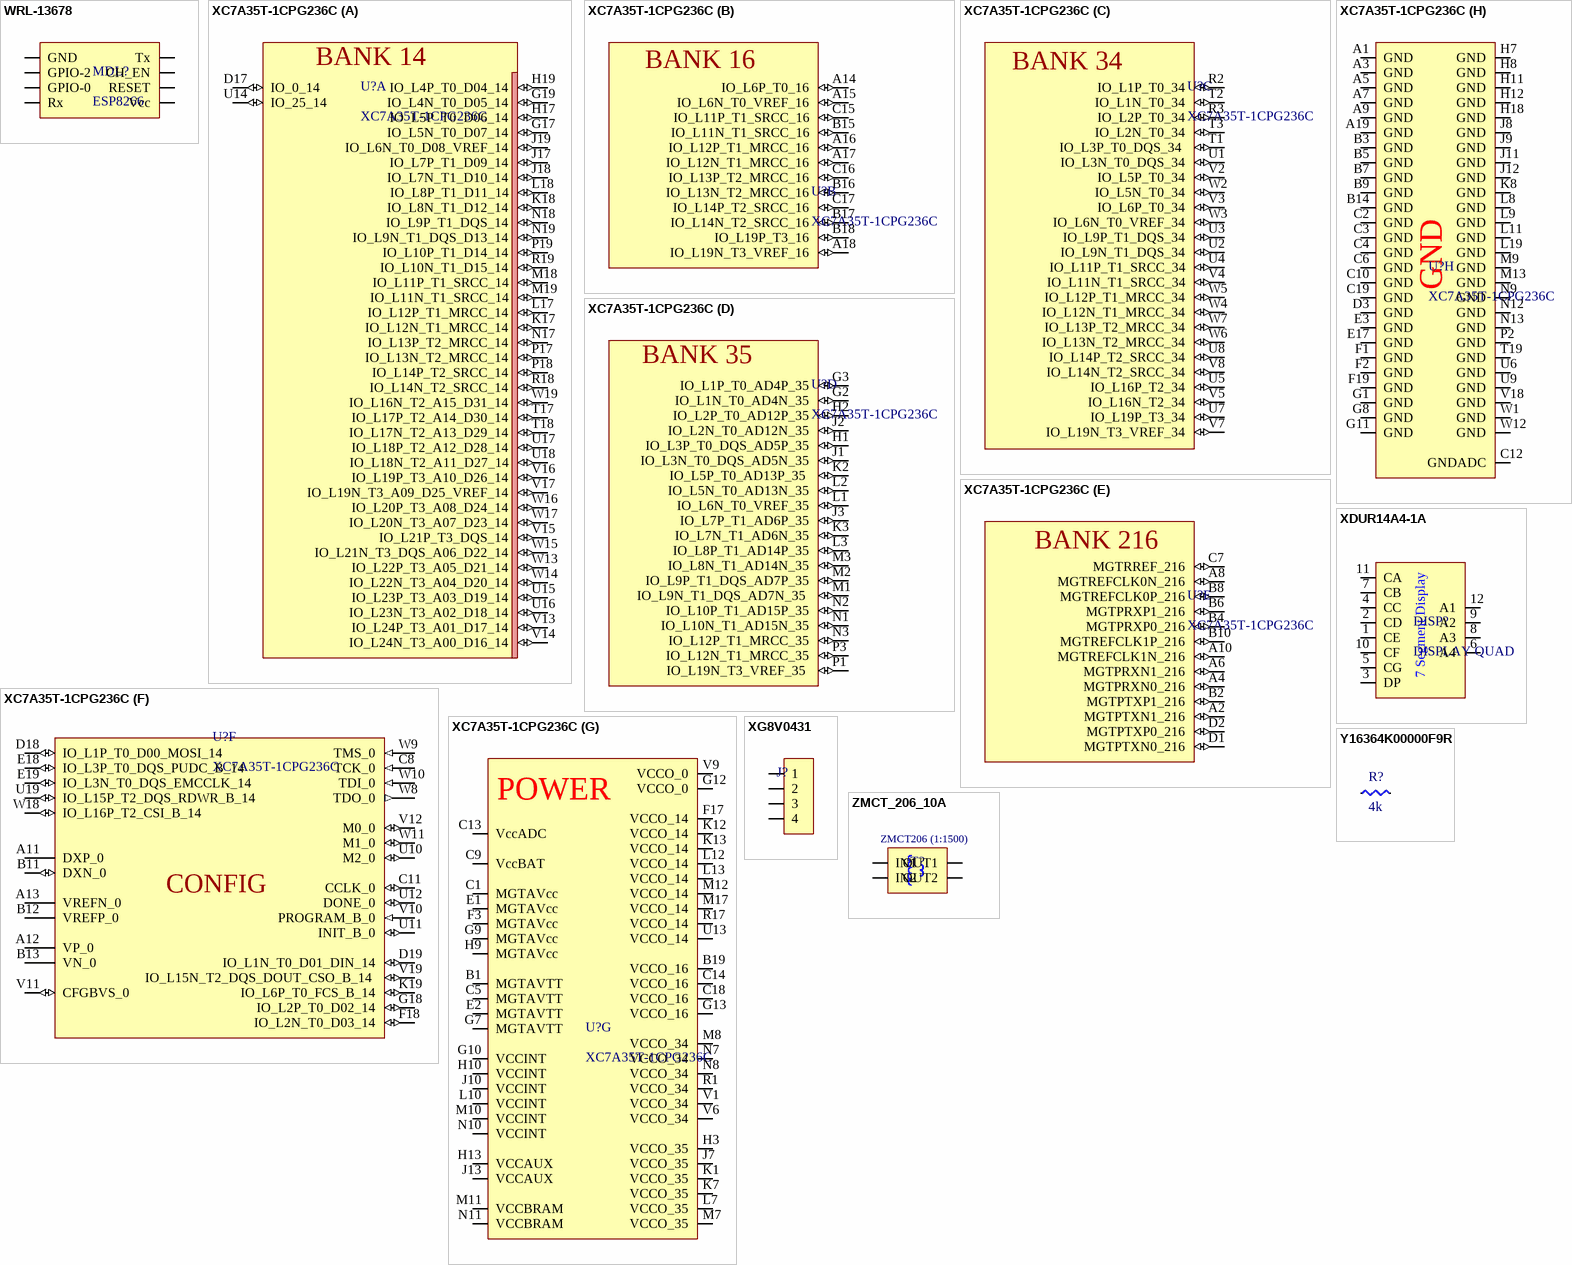
[diagram p16: symbols WRL-13678 to ZMCT_206_10A]

## WRL-13678
designator MDL?, comment ESP8266
ESP8266 MOD TXRX WIFI TRACE ANT; Manufacturer: SparkFun; Manufacturer Part Number: WRL-13678; Interface: UART; Frequency: 2.48GHz; Data Rate: 72.2Mbps; Sensitivity: -98dBm; Memory Size: 1MB; Current - Receiving: 62mA; Current - Transmitting: 215mA; Supplier 1: Digi-Key; Stock 1: 0; RoHS: No; Mount: Through Hole; Case/Package: Module; Min Operating Temperature: -20°C; Max Operating Temperature: 100°C; Packaging: Bulk; ComponentLink1URL: https://nurdspace.nl/images/e/e0/ESP8266_Specifications_English.pdf?src-supplier=Digi-Key; ComponentLink1Description: https://nurdspace.nl/images/e/e0/ESP8266_Specifications_English.pdf?src-supplier=Digi-Key; Supplier Part Number 1: 1568-1235-ND
footprint ESP8266
pins: 1 GND, 2 Tx, 3 GPIO-2, 4 CH_EN, 5 GPIO-0, 6 RESET, 7 Rx, 8 Vcc